# EAGLE library part DX07P024AJ1R1500 (library OTG_C)
USB-C (USB TYPE-C) USB 3.2 Gen 2 (USB 3.1 Gen 2, Superspeed + (USB 3.1)) Plug Connector 24 Position Board Edge, Straddle Mount Check prices <https://pricing.snapeda.com/parts/DX07P024AJ1R1500/JAE%20Electronics/view-part?ref=eda>
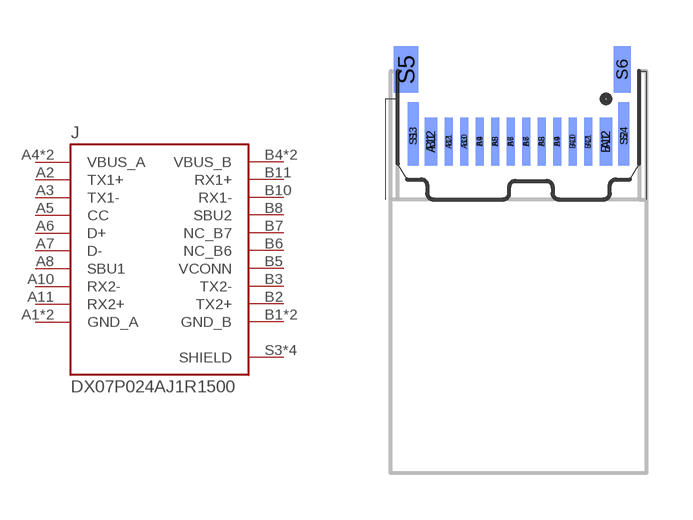
[diagram p1: symbol with the pads of JAE_DX07P024AJ1R1500; footprint JAE_DX07P024AJ1R1500]

Designator prefix J

## DX07P024AJ1R1500 (AVAILABILITY: In Stock; DESCRIPTION: USB-C (USB TYPE-C) USB 3.2 Gen 2 (USB 3.1 Gen 2, Superspeed + (USB 3.1)) Plug Connector 24 Position Board Edge, Straddle Mount; MF: JAE Electronics; MP: DX07P024AJ1R1500; PACKAGE: None; PRICE: None; PURCHASE-URL: https://pricing.snapeda.com/search/part/DX07P024AJ1R1500/?ref=eda)  [JAE_DX07P024AJ1R1500]
A1  GND_A  pwr
A2  TX1+
A3  TX1-
A4  VBUS_A  pwr
A5  CC
A6  D+
A7  D-
A8  SBU1
A9  VBUS_A  pwr
A10  RX2-
A11  RX2+
A12  GND_A  pwr
B1  GND_B  pwr
B2  TX2+
B3  TX2-
B4  VBUS_B  pwr
B5  VCONN
B6  NC_B6  nc
B7  NC_B7  nc
B8  SBU2
B9  VBUS_B  pwr
B10  RX1-
B11  RX1+
B12  GND_B  pwr
S3  SHIELD  pas
S4  SHIELD  pas
S5  SHIELD  pas
S6  SHIELD  pas

## Footprint JAE_DX07P024AJ1R1500 (pad centres in mm)
smd 0.41 x 1.55: A1 2.825,1.875; A12 -2.825,1.875
smd 0.26 x 1.55: A2 2.25,1.875; A3 1.75,1.875; A4 1.25,1.875; A5 0.75,1.875; A6 0.25,1.875; A7 -0.25,1.875; A8 -0.75,1.875; A9 -1.25,1.875; A10 -1.75,1.875; A11 -2.25,1.875
smd 0.41 x 1.55 bottom: B1 -2.825,1.875; B12 2.825,1.875
smd 0.26 x 1.55 bottom: B2 -2.25,1.875; B3 -1.75,1.875; B4 -1.25,1.875; B5 -0.75,1.875; B6 -0.25,1.875; B7 0.25,1.875; B8 0.75,1.875; B9 1.25,1.875; B10 1.75,1.875; B11 2.25,1.875
smd 0.36 x 1.75: S1 -3.405,1.975; S2 3.405,1.975
smd 0.36 x 2.05 bottom: S3 -3.405,2.125; S4 3.405,2.125
smd 0.785 x 1.5 bottom: S5 -3.632,4.2
smd 0.55 x 1.5 bottom: S6 3.35,4.2